# EAGLE library part 1LINE_SOCKET_2MM_7 (library my_con)
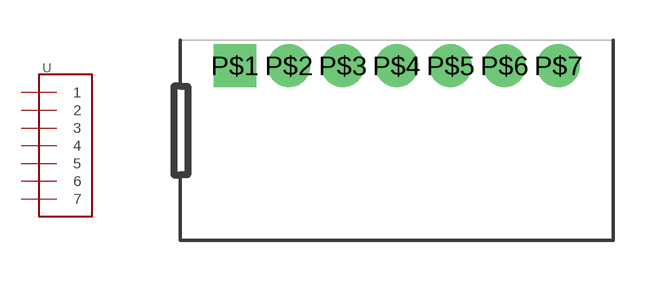
[diagram p6: symbol with the pads of 1LINE_SOCKET_2MM_7; footprint 1LINE_SOCKET_2MM_7]

Designator prefix -

## 1LINE_SOCKET_2MM_7  [1LINE_SOCKET_2MM_7]
P$1  1  pas
P$2  2  pas
P$3  3  pas
P$4  4  pas
P$5  5  pas
P$6  6  pas
P$7  7  pas

## Footprint 1LINE_SOCKET_2MM_7 (pad centres in mm)
drill 0.85 pad 1.587 square: P$1 -6,0.96
drill 0.85 pad 1.587: P$2 -4,0.96; P$3 -2,0.96; P$4 0,0.96; P$5 2,0.96; P$6 4,0.96; P$7 6,0.96